# Altium footprint library EVB_M1.PcbLib: 24 footprints (part 1 of 2)
Each footprint in its own frame and in the unit in brackets; x right, y up, seen from the top. Pads: shape width x height; smd on the part's side, far side on the other; paste and mask are expansions set on the pad; w line width, h text height; cw(c..) or ccw(c..) is an arc to the next point about the centre after c.
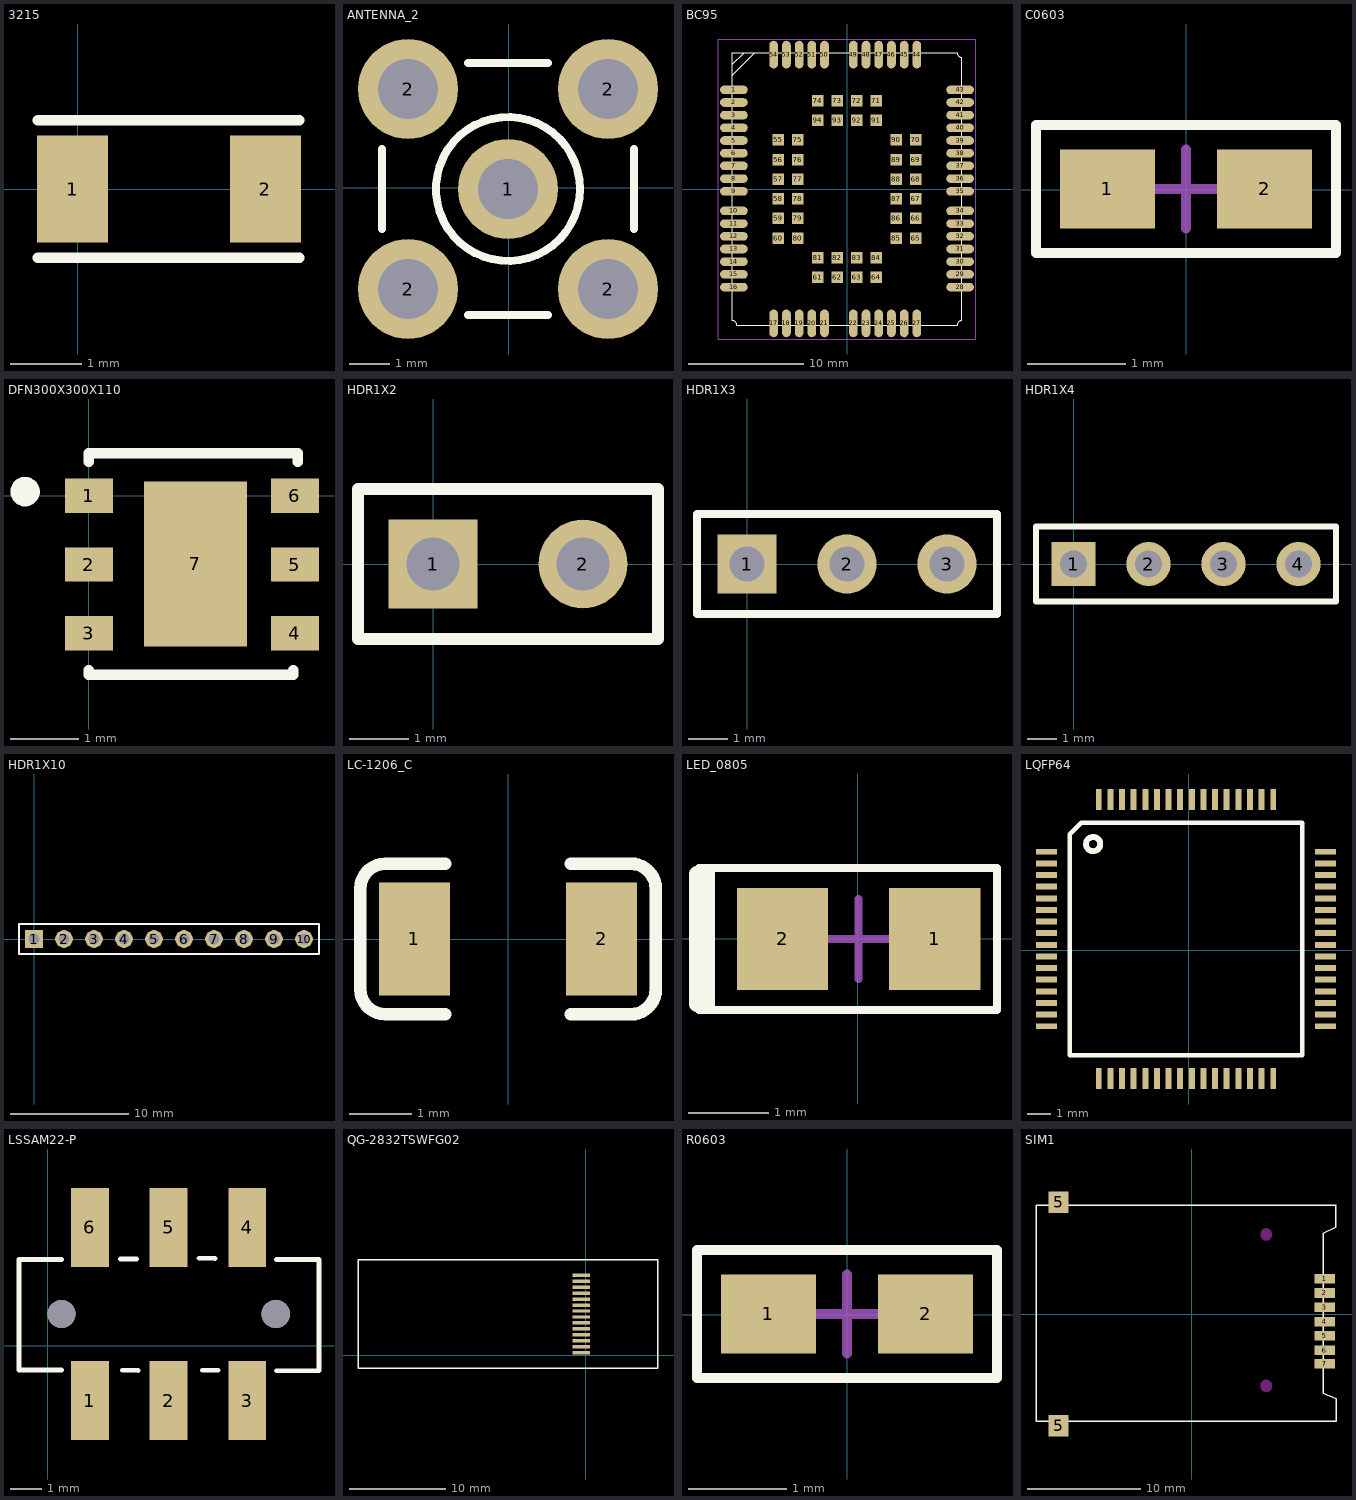
[diagram p0: the footprints below, top view; thin cyan lines are the x and y axes]

## 3215 [mm]
pads (2):
  rect 1x1.5 smd: 1(-0.076,0) 2(2.627,0)
Top Overlay:
  lines w0.15: -0.559,-0.965 3.099,-0.965 ; -0.559,0.965 3.099,0.965

## ANTENNA_2 [mm]
pads (5):
  round 2.5 hole 1.5: 1(-0.016,-0.025) 2(-2.516,-2.525) 2(-2.516,2.475) 2(2.484,-2.525) 2(2.484,2.475)
Top Overlay:
  circle w0.2: c-0.016,-0.025 r1.8
  lines w0.2: -3.166,-1.025 -3.166,0.975 ; -1.016,-3.175 0.984,-3.175 ; -1.016,3.125 0.984,3.125 ; 3.134,-1.025 3.134,0.975
Mechanical 1:
  circle w0.025: c-0.016,-0.025 r1.8
  circle w0.025: c-0.016,-0.025 r1.05
  circle w0.025: c-0.016,-0.025 r0.2

## BC95 [mm]
pads (94):
  oval 2.4x0.75 smd: 1(-9.8,8.6) 2(-9.8,7.5) 3(-9.8,6.4) 4(-9.8,5.3) 5(-9.8,4.2) 6(-9.8,3.1) 7(-9.8,2) 8(-9.8,0.9) 9(-9.8,-0.2) 10(-9.8,-1.9) 11(-9.8,-3) 12(-9.8,-4.1) 13(-9.8,-5.2) 14(-9.8,-6.3) 15(-9.8,-7.4) 16(-9.8,-8.5) 28(9.8,-8.5) 29(9.8,-7.4) 30(9.8,-6.3) 31(9.8,-5.2) 32(9.8,-4.1) 33(9.8,-3) 34(9.8,-1.9) 35(9.8,-0.2) 36(9.8,0.9) 37(9.8,2) 38(9.8,3.1) 39(9.8,4.2) 40(9.8,5.3) 41(9.8,6.4) 42(9.8,7.5) 43(9.8,8.6)
  oval 0.75x2.4 smd: 17(-6.35,-11.65) 18(-5.25,-11.65) 19(-4.15,-11.65) 20(-3.05,-11.65) 21(-1.95,-11.65) 22(0.55,-11.65) 23(1.65,-11.65) 24(2.75,-11.65) 25(3.85,-11.65) 26(4.95,-11.65) 27(6.05,-11.65) 44(6.05,11.65) 45(4.95,11.65) 46(3.85,11.65) 47(2.75,11.65) 48(1.65,11.65) 49(0.55,11.65) 50(-1.95,11.65) 51(-3.05,11.65) 52(-4.15,11.65) 53(-5.25,11.65) 54(-6.35,11.65)
  rect 1x1 smd: 55(-5.95,4.25) 56(-5.95,2.55) 57(-5.95,0.85) 58(-5.95,-0.85) 59(-5.95,-2.55) 60(-5.95,-4.25) 61(-2.55,-7.65) 62(-0.85,-7.65) 63(0.85,-7.65) 64(2.55,-7.65) 65(5.95,-4.25) 66(5.95,-2.55) 67(5.95,-0.85) 68(5.95,0.85) 69(5.95,2.55) 70(5.95,4.25) 71(2.55,7.65) 72(0.85,7.65) 73(-0.85,7.65) 74(-2.55,7.65) 75(-4.25,4.25) 76(-4.25,2.55) 77(-4.25,0.85) 78(-4.25,-0.85) 79(-4.25,-2.55) 80(-4.25,-4.25) 81(-2.55,-5.95) 82(-0.85,-5.95) 83(0.85,-5.95) 84(2.55,-5.95) 85(4.25,-4.25) 86(4.25,-2.55) 87(4.25,-0.85) 88(4.25,0.85) 89(4.25,2.55) 90(4.25,4.25) 91(2.55,5.95) 92(0.85,5.95) 93(-0.85,5.95) 94(-2.55,5.95)
Top Overlay:
  lines w0.1: -9.95,9.851 -8.001,11.8 -9.271,11.8 ; -9.95,10.033 -9.95,11.375 ; -9.95,10.414 -9.95,11.8 ; -9.931,10.82 -8.966,11.786 ; -8.437,11.8 -9.95,11.8 ; -9.95,11.8 -9.95,-11.4 cw(c-9.95,-11.8) -9.55,-11.8 9.55,-11.8 cw(c9.95,-11.8) 9.95,-11.4 9.95,11.4 cw(c9.95,11.8) 9.55,11.8 -9.95,11.8
Mechanical 1:
  lines w0.01: -11.15,-13 11.15,-13 11.15,13 -11.15,13 -11.15,-13

## C0603 [mm]
pads (2):
  rect 0.965x0.8 smd: 1(-0.8,0.01) 2(0.8,0.01)
Top Overlay:
  lines w0.1: -1.525,-0.64 1.525,-0.64 1.525,0.66 -1.525,0.66 -1.525,-0.64
Mechanical 15:
  lines w0.1: -0.4,0.01 0.4,0.01 ; 0,-0.39 0,0.41
3D body "User Library-0603 SMD Capacitor.STEP": height 0.3, standoff 0, extent -0.8,-0.4 0.8,0.4

## DFN300X300X110 [mm]
pads (7):
  rect 0.7x0.5 smd: 1(0,0) 2(0,-1) 3(0,-2) 4(3,-2) 5(3,-1) 6(3,0)
  rect 1.5x2.4 smd: 7(1.55,-0.992)
Top Overlay:
  circle w0.254: c-0.93,0.062 r0.088
  lines w0.152: 0,-2.542 0,-2.604 2.976,-2.604 2.976,-2.542 ; 0,0.496 0,0.62 3.038,0.62 3.038,0.496

## HDR1X2 [mm]
pads (2):
  rect 1.5x1.5 hole 0.9: 1(0,0)
  round 1.5 hole 0.9: 2(2.54,0)
Top Overlay:
  lines w0.2: -1.27,-1.27 -1.27,1.27 3.81,1.27 3.81,-1.27 -1.27,-1.27
3D body "1001-2.STEP": height 8.54, standoff -3, extent -1.27,-1.27 3.81,1.27

## HDR1X3 [mm]
pads (3):
  rect 1.5x1.5 hole 0.9: 1(0,0)
  round 1.5 hole 0.9: 2(2.54,0) 3(5.08,0)
Top Overlay:
  lines w0.2: -1.27,-1.27 6.35,-1.27 6.35,1.27 -1.27,1.27 -1.27,-1.27
3D body "1001-3.STEP": height 8.54, standoff -3, extent -1.27,-1.27 6.35,1.27

## HDR1X4 [mm]
pads (4):
  rect 1.5x1.5 hole 0.9: 1(0,0)
  round 1.5 hole 0.9: 2(2.54,0) 3(5.08,0) 4(7.62,0)
Top Overlay:
  lines w0.2: -1.27,-1.27 -1.27,1.27 8.89,1.27 8.89,-1.27 -1.27,-1.27
3D body "1001-4.STEP": height 8.54, standoff -3, extent -1.27,-1.27 8.89,1.27

## HDR1X10 [mm]
pads (10):
  rect 1.5x1.5 hole 0.9: 1(0,0)
  round 1.5 hole 0.9: 2(2.54,0) 3(5.08,0) 4(7.62,0) 5(10.16,0) 6(12.7,0) 7(15.24,0) 8(17.78,0) 9(20.32,0) 10(22.86,0)
Top Overlay:
  lines w0.2: -1.27,-1.27 -1.27,1.27 0.635,1.27 24.13,1.27 24.13,-1.27 -1.27,-1.27

## LC-1206_C [mm]
pads (2):
  rect 1.13x1.8 smd: 1(-1.49,0) 2(1.49,0)
Top Overlay:
  lines w0.2: -1,-1.2 -1.955,-1.2 cw(c-1.955,-0.8) -2.355,-0.8 -2.355,0.8 cw(c-1.955,0.8) -1.955,1.2 -1,1.2 ; 1,-1.2 1.955,-1.2 ccw(c1.955,-0.8) 2.355,-0.8 2.355,0.8 ccw(c1.955,0.8) 1.955,1.2 1,1.2
3D body "C1206.STEP": height 1, standoff 0, extent -1.602,-0.813 1.598,0.787

## LED_0805 [mm]
pads (2):
  rect 1.14x1.27 smd: 1(0.96,0) 2(-0.94,0)
Top Overlay:
  lines w0.1: -1.981,-0.885 1.735,-0.885 1.735,0.885 -1.981,0.885
  lines w0.2: -2.007,-0.809 -2.007,0.809 ; -1.88,-0.809 -1.88,0.809
Mechanical 15:
  lines w0.1: -0.49,0 0.51,0 ; 0.01,-0.5 0.01,0.5

## LQFP64 [mm]
pads (64):
  rect 0.9x0.254 smd: 1(-6.12,4.239) 2(-6.12,3.739) 3(-6.12,3.239) 4(-6.12,2.739) 5(-6.12,2.239) 6(-6.12,1.739) 7(-6.12,1.239) 8(-6.12,0.739) 9(-6.12,0.239) 10(-6.12,-0.261) 11(-6.12,-0.761) 12(-6.12,-1.261) 13(-6.12,-1.761) 14(-6.12,-2.261) 15(-6.12,-2.761) 16(-6.12,-3.261) 33(5.88,-3.261) 34(5.88,-2.761) 35(5.88,-2.261) 36(5.88,-1.761) 37(5.88,-1.261) 38(5.88,-0.761) 39(5.88,-0.261) 40(5.88,0.239) 41(5.88,0.739) 42(5.88,1.239) 43(5.88,1.739) 44(5.88,2.239) 45(5.88,2.739) 46(5.88,3.239) 47(5.88,3.739) 48(5.88,4.239)
  rect 0.254x0.9 smd: 17(-3.87,-5.511) 18(-3.37,-5.511) 19(-2.87,-5.511) 20(-2.37,-5.511) 21(-1.87,-5.511) 22(-1.37,-5.511) 23(-0.87,-5.511) 24(-0.37,-5.511) 25(0.13,-5.511) 26(0.63,-5.511) 27(1.13,-5.511) 28(1.63,-5.511) 29(2.13,-5.511) 30(2.63,-5.511) 31(3.13,-5.511) 32(3.63,-5.511) 49(3.63,6.489) 50(3.13,6.489) 51(2.63,6.489) 52(2.13,6.489) 53(1.63,6.489) 54(1.13,6.489) 55(0.63,6.489) 56(0.13,6.489) 57(-0.37,6.489) 58(-0.87,6.489) 59(-1.37,6.489) 60(-1.87,6.489) 61(-2.37,6.489) 62(-2.87,6.489) 63(-3.37,6.489) 64(-3.87,6.489)
Top Overlay:
  circle w0.254: c-4.115,4.569 r0.306
  lines w0.203: -5.12,-4.511 4.88,-4.511 4.88,5.489 -4.62,5.489 -5.12,4.989 -5.12,-4.511
3D body "User Library-STM32F107 -LQFP64 10mm x 10mm.STEP": height 1.6, standoff 0.01, extent -6.075,-5.541 5.923,6.456

## LSSAM22-P [mm]
pads (6):
  rect 1.2x2.5 smd: 1(1.335,-1.734) 2(3.835,-1.734) 3(6.335,-1.734) 4(6.335,3.766) 5(3.835,3.766) 6(1.335,3.766)
via 0.435,1.016 diameter 0.9 hole 0.9
via 7.235,1.016 diameter 0.9 hole 0.9
Top Overlay:
  lines w0.152: -0.914,2.738 -0.914,-0.762 0.432,-0.762 ; -0.914,2.743 0.432,2.743 ; 2.311,2.763 2.819,2.763 ; 2.362,-0.773 2.87,-0.773 ; 4.801,2.783 5.309,2.783 ; 4.902,-0.767 5.41,-0.768 ; 7.264,-0.787 8.611,-0.787 ; 7.264,2.743 8.611,2.743 ; 8.611,-0.762 8.611,2.738

## QG-2832TSWFG02 [mm]
pads (14):
  rect 1.8x0.35 smd: 1(-0.496,0.248) 2(-0.496,0.868) 3(-0.496,1.488) 4(-0.496,2.108) 5(-0.496,2.728) 6(-0.497,3.348) 7(-0.496,3.968) 8(-0.496,4.588) 9(-0.496,5.208) 10(-0.496,5.828) 11(-0.497,6.448) 12(-0.496,7.068) 13(-0.496,7.688) 14(-0.496,8.308)
Top Overlay:
  lines w0.152: -23.744,-1.364 2.567,-1.364 7.511,-1.364 7.511,0.092 7.511,9.92 -23.744,9.92 -23.744,-1.364
3D body "User Library-ER-OLED0_084.STEP": height 2.36, standoff 0.5, extent -23.425,-0.344 7.278,8.856

## R0603 [mm]
pads (2):
  rect 0.965x0.8 smd: 1(-0.8,0.01) 2(0.8,0.01)
Top Overlay:
  lines w0.1: -1.525,-0.64 1.525,-0.64 1.525,0.66 -1.525,0.66 -1.525,-0.64
Mechanical 15:
  lines w0.1: -0.4,0.01 0.4,0.01 ; 0,-0.39 0,0.41
3D body "User Library-0603 SMD Resistor.STEP": height 0.3, standoff 0, extent -0.786,-0.4 0.814,0.4

## SIM1 [mm]
pads (9):
  rect 1.8x0.85 smd: 1(11.814,3.134) 2(11.814,1.864) 3(11.814,0.594) 4(11.814,-0.676) 5(11.814,-1.946) 6(11.814,-3.216) 7(11.814,-4.406)
  rect 1.8x1.9 smd: 5(-11.814,-9.902) 5(-11.814,9.902)
Top Overlay:
  lines w0.127: -13.814,-9.515 12.806,-9.515 12.806,-7.535 11.666,-7.028 11.666,7.152 12.805,7.681 12.805,9.661 ; -13.814,-9.508 -13.814,9.662 12.806,9.662
Keep-Out Layer:
  board cut-out: 6.616,6.559 6.516,6.559 6.332,6.635 6.192,6.776 6.116,6.959 6.116,7.059 6.116,7.158 6.192,7.342 6.332,7.483 6.516,7.559 6.616,7.559 6.715,7.559 6.899,7.483 7.04,7.342 7.116,7.158 7.116,7.059 7.116,6.959 7.04,6.776 6.899,6.635 6.715,6.559
  board cut-out: 6.116,-6.378 6.116,-6.477 6.192,-6.661 6.332,-6.802 6.516,-6.878 6.616,-6.878 6.715,-6.878 6.899,-6.802 7.04,-6.661 7.116,-6.477 7.116,-6.378 7.116,-6.278 7.04,-6.094 6.899,-5.954 6.715,-5.878 6.616,-5.878 6.516,-5.878 6.332,-5.954 6.192,-6.094 6.116,-6.278
Keep-Out Layer:
  circle w0.102: c6.616,7.059 r0.5
  circle w0.102: c6.616,-6.378 r0.5